# EAGLE library part DUAL7SEG (library JoesCustom)
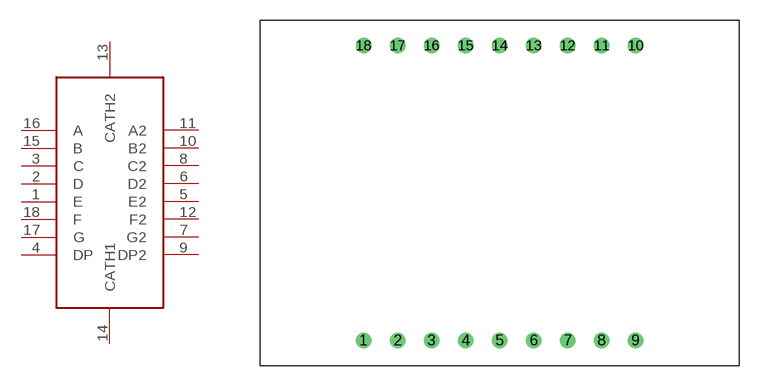
[diagram p6: symbol with the pads of DUAL-7SEG-LED; footprint DUAL-7SEG-LED]

Designator prefix -

## DUAL7SEG  [DUAL-7SEG-LED]
1  E
2  D
3  C
4  DP
5  E2
6  D2
7  G2
8  C2
9  DP2
10  B2
11  A2
12  F2
13  CATH2
14  CATH1
15  B
16  A
17  G
18  F

## Footprint DUAL-7SEG-LED (pad centres in mm)
drill 0.66 round: 1 -10.16,-11; 2 -7.62,-11; 3 -5.08,-11; 4 -2.54,-11; 5 0,-11; 6 2.54,-11; 7 5.08,-11; 8 7.62,-11; 9 10.16,-11; 10 10.16,11; 11 7.62,11; 12 5.08,11; 13 2.54,11; 14 0,11; 15 -2.54,11; 16 -5.08,11; 17 -7.62,11; 18 -10.16,11